# EAGLE library part MINI_USB_THSMT (library GadgetFactory_v1)
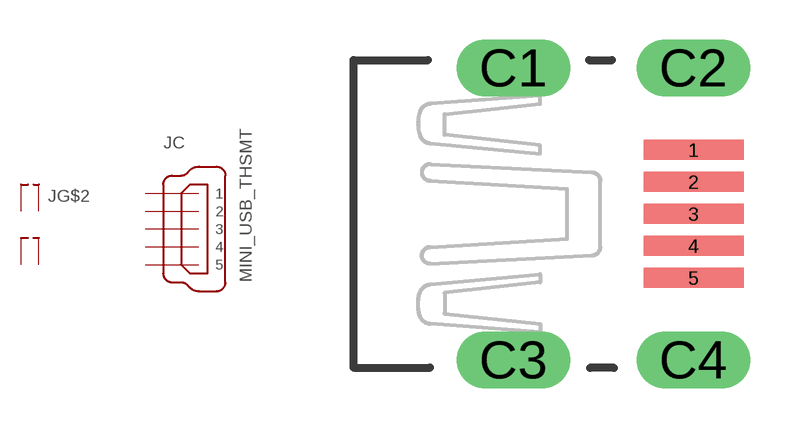
[diagram p30: symbol with the pads of MINI-USB-THSMT; footprint MINI-USB-THSMT]

Designator prefix J; gates C=MINI-USB G$2=SHIELD2

## MINI_USB_THSMT  [MINI-USB-THSMT]
1  C:1  pas
2  C:2  pas
3  C:3  pas
4  C:4  pas
5  C:5  pas
C1  G$2:S1  pas
C2  G$2:S2  pas
C3  G$2:S3  pas
C4  G$2:S4  pas

## Footprint MINI-USB-THSMT (pad centres in mm)
smd 2.5 x 0.5: 1 0,1.6; 2 0,0.8; 3 0,0; 4 0,-0.8; 5 0,-1.6
drill 0.8 pad 1.422 long: C1 -4.5,3.65; C2 0,3.65; C3 -4.5,-3.65; C4 0,-3.65